# EAGLE library part SFE-DCDC-CONVERTER (library SDSURocket-BreakoutBoards)
SparkFun DC/DC Converter Breakout Layout for the SparkFun DC/DC Converter Breakout. SparkFun Part #: BOB-09370 <https://www.sparkfun.com/products/9370>
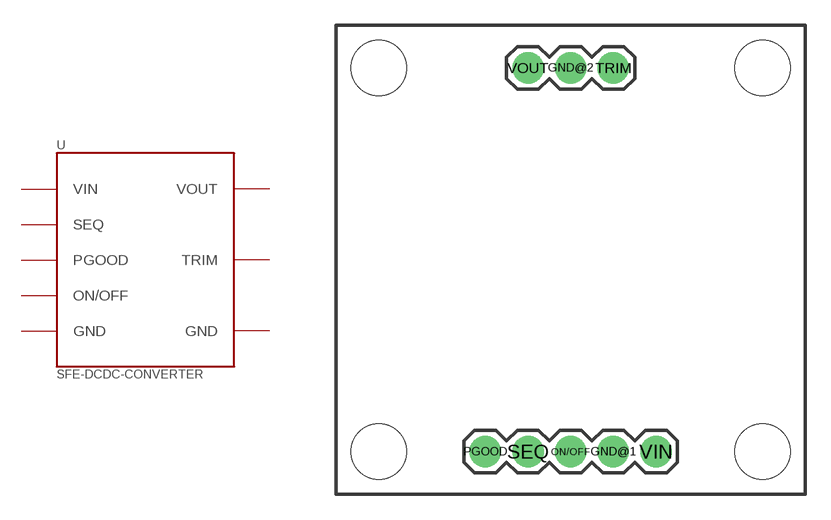
[diagram p0: symbol with the pads of SFE-DCDC-CONVERTER; footprint SFE-DCDC-CONVERTER]

Designator prefix -

## SFE-DCDC-CONVERTER-BREAKOUT  [SFE-DCDC-CONVERTER]
GND@1  GND  pwr
GND@2  GND  pwr
ON/OFF  ON/OFF
PGOOD  PGOOD
SEQ  SEQ
TRIM  TRIM
VIN  VIN  pwr
VOUT  VOUT  pwr

## Footprint SFE-DCDC-CONVERTER (pad centres in mm)
SparkFun DC/DC Converter Breakout Layout for the SparkFun DC/DC Converter Breakout. SparkFun Part #: BOB-09370 <https://www.sparkfun.com/products/9370>
drill 1.016 pad 1.88: GND@1 2.54,-11.43; GND@2 0,11.43; ON/OFF 0,-11.43; PGOOD -5.08,-11.43; SEQ -2.54,-11.43; TRIM 2.54,11.43; VIN 5.08,-11.43; VOUT -2.54,11.43
hole 3.302 at -11.43,11.43
hole 3.302 at -11.43,-11.43
hole 3.302 at 11.43,11.43
hole 3.302 at 11.43,-11.43